# Altium footprint library 2.14-PLCC封装.PcbLib: 77 footprints (part 2 of 5)
Each footprint in its own frame and in the unit in brackets; x right, y up, seen from the top. Pads: shape width x height; smd on the part's side, far side on the other; paste and mask are expansions set on the pad; w line width, h text height; cw(c..) or ccw(c..) is an arc to the next point about the centre after c.
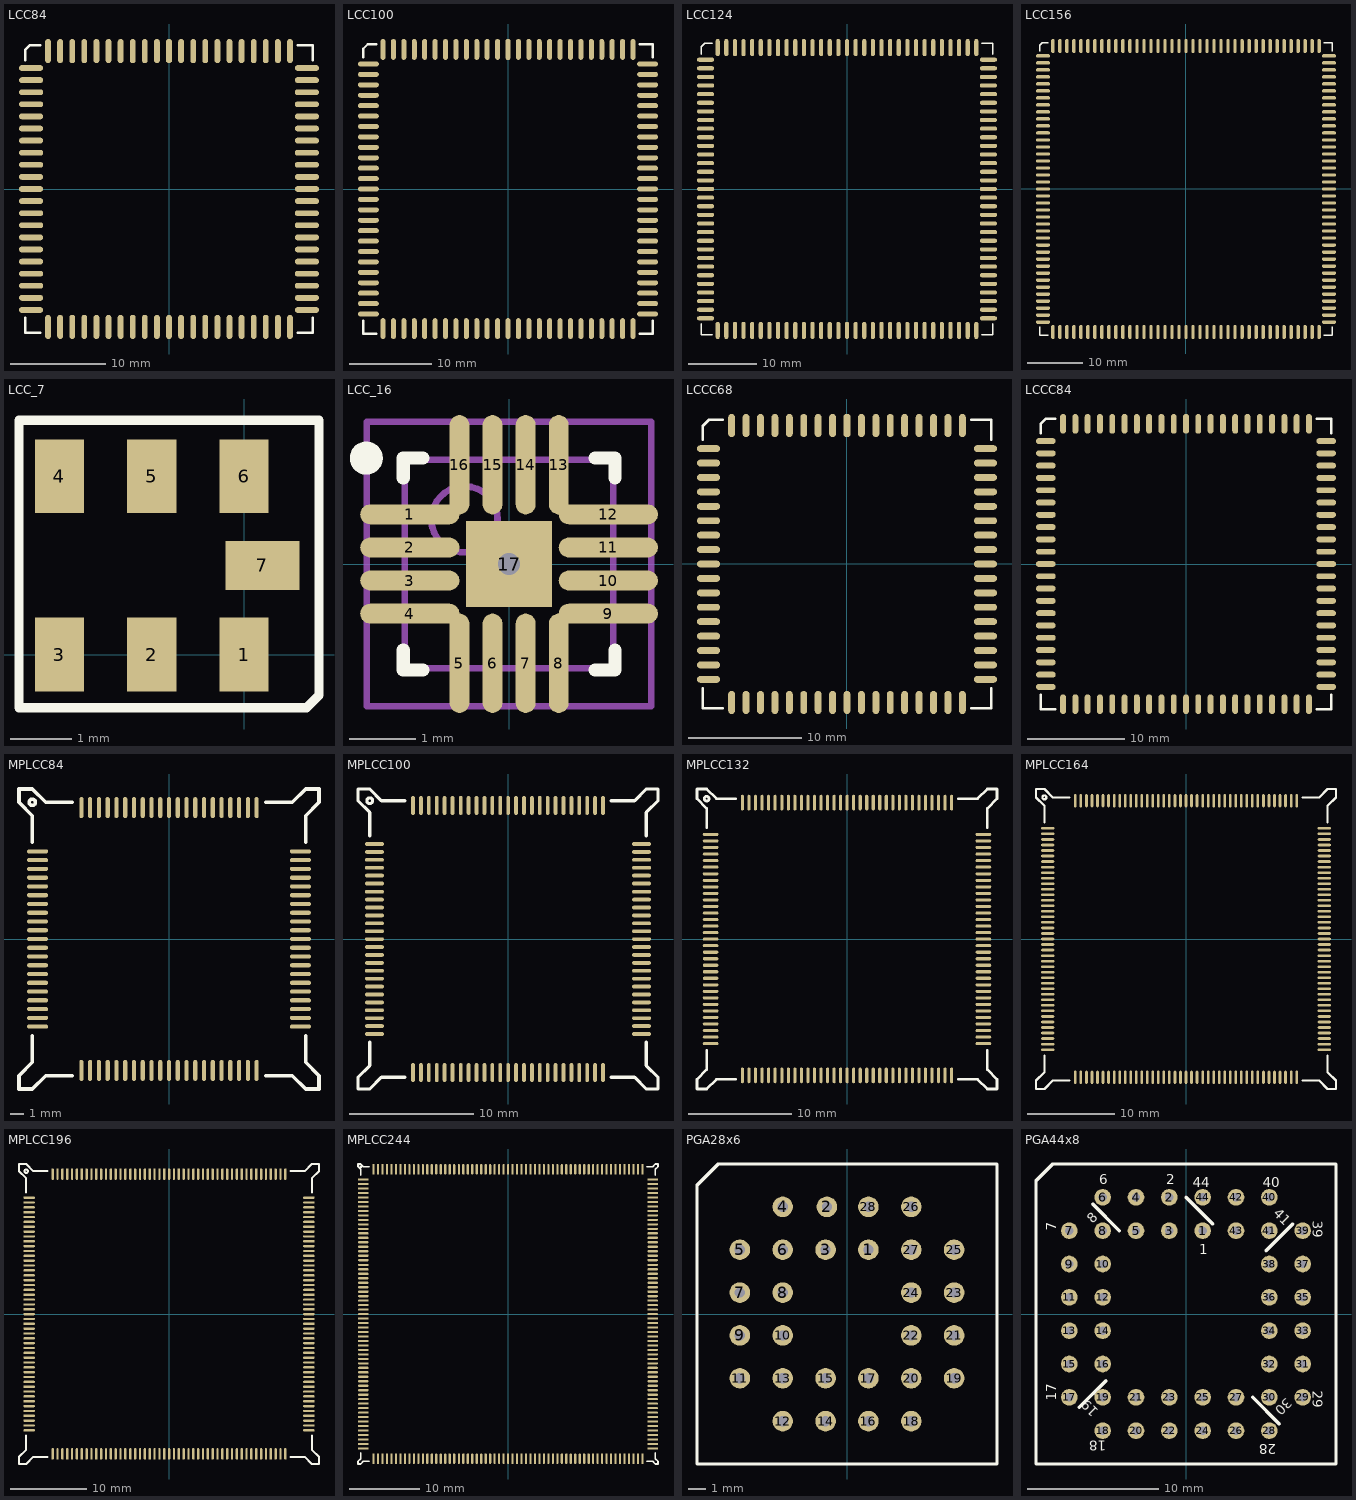
[diagram p1: the footprints below, top view; thin cyan lines are the x and y axes]

## LCC84 [mil] "[ PCBѧϰȺ514746572 ]"
pads (84):
  oct 24x100 smd: 1(0,570)
  oval 24x100 smd: 2(-50,570) 3(-100,570) 4(-150,570) 5(-200,570) 6(-250,570) 7(-300,570) 8(-350,570) 9(-400,570) 10(-450,570) 11(-500,570) 33(-500,-570) 34(-450,-570) 35(-400,-570) 36(-350,-570) 37(-300,-570) 38(-250,-570) 39(-200,-570) 40(-150,-570) 41(-100,-570) 42(-50,-570) 43(0,-570) 44(50,-570) 45(100,-570) 46(150,-570) 47(200,-570) 48(250,-570) 49(300,-570) 50(350,-570) 51(400,-570) 52(450,-570) 53(500,-570) 75(500,570) 76(450,570) 77(400,570) 78(350,570) 79(300,570) 80(250,570) 81(200,570) 82(150,570) 83(100,570) 84(50,570)
  oval 100x24 smd: 12(-570,500) 13(-570,450) 14(-570,400) 15(-570,350) 16(-570,300) 17(-570,250) 18(-570,200) 19(-570,150) 20(-570,100) 21(-570,50) 22(-570,0) 23(-570,-50) 24(-570,-100) 25(-570,-150) 26(-570,-200) 27(-570,-250) 28(-570,-300) 29(-570,-350) 30(-570,-400) 31(-570,-450) 32(-570,-500) 54(570,-500) 55(570,-450) 56(570,-400) 57(570,-350) 58(570,-300) 59(570,-250) 60(570,-200) 61(570,-150) 62(570,-100) 63(570,-50) 64(570,0) 65(570,50) 66(570,100) 67(570,150) 68(570,200) 69(570,250) 70(570,300) 71(570,350) 72(570,400) 73(570,450) 74(570,500)
Top Overlay:
  lines w10: -595,-532 -595,-595 -532,-595 ; -595,532 -595,574 -574,595 -532,595 ; 532,-595 595,-595 595,-532 ; 532,595 595,595 595,532

## LCC100 [mil] "[ PCBѧϰȺ514746572 ]"
pads (100):
  oct 24x100 smd: 1(0,670)
  oval 24x100 smd: 2(-50,670) 3(-100,670) 4(-150,670) 5(-200,670) 6(-250,670) 7(-300,670) 8(-350,670) 9(-400,670) 10(-450,670) 11(-500,670) 12(-550,670) 13(-600,670) 39(-600,-670) 40(-550,-670) 41(-500,-670) 42(-450,-670) 43(-400,-670) 44(-350,-670) 45(-300,-670) 46(-250,-670) 47(-200,-670) 48(-150,-670) 49(-100,-670) 50(-50,-670) 51(0,-670) 52(50,-670) 53(100,-670) 54(150,-670) 55(200,-670) 56(250,-670) 57(300,-670) 58(350,-670) 59(400,-670) 60(450,-670) 61(500,-670) 62(550,-670) 63(600,-670) 89(600,670) 90(550,670) 91(500,670) 92(450,670) 93(400,670) 94(350,670) 95(300,670) 96(250,670) 97(200,670) 98(150,670) 99(100,670) 100(50,670)
  oval 100x24 smd: 14(-670,600) 15(-670,550) 16(-670,500) 17(-670,450) 18(-670,400) 19(-670,350) 20(-670,300) 21(-670,250) 22(-670,200) 23(-670,150) 24(-670,100) 25(-670,50) 26(-670,0) 27(-670,-50) 28(-670,-100) 29(-670,-150) 30(-670,-200) 31(-670,-250) 32(-670,-300) 33(-670,-350) 34(-670,-400) 35(-670,-450) 36(-670,-500) 37(-670,-550) 38(-670,-600) 64(670,-600) 65(670,-550) 66(670,-500) 67(670,-450) 68(670,-400) 69(670,-350) 70(670,-300) 71(670,-250) 72(670,-200) 73(670,-150) 74(670,-100) 75(670,-50) 76(670,0) 77(670,50) 78(670,100) 79(670,150) 80(670,200) 81(670,250) 82(670,300) 83(670,350) 84(670,400) 85(670,450) 86(670,500) 87(670,550) 88(670,600)
Top Overlay:
  lines w10: -695,-632 -695,-695 -632,-695 ; -695,632 -695,674 -674,695 -632,695 ; 632,-695 695,-695 695,-632 ; 632,695 695,695 695,632

## LCC124 [mil] "[ PCBѧϰȺ514746572 ]"
pads (124):
  oct 24x100 smd: 1(0,820)
  oval 24x100 smd: 2(-50,820) 3(-100,820) 4(-150,820) 5(-200,820) 6(-250,820) 7(-300,820) 8(-350,820) 9(-400,820) 10(-450,820) 11(-500,820) 12(-550,820) 13(-600,820) 14(-650,820) 15(-700,820) 16(-750,820) 48(-750,-820) 49(-700,-820) 50(-650,-820) 51(-600,-820) 52(-550,-820) 53(-500,-820) 54(-450,-820) 55(-400,-820) 56(-350,-820) 57(-300,-820) 58(-250,-820) 59(-200,-820) 60(-150,-820) 61(-100,-820) 62(-50,-820) 63(0,-820) 64(50,-820) 65(100,-820) 66(150,-820) 67(200,-820) 68(250,-820) 69(300,-820) 70(350,-820) 71(400,-820) 72(450,-820) 73(500,-820) 74(550,-820) 75(600,-820) 76(650,-820) 77(700,-820) 78(750,-820) 110(750,820) 111(700,820) 112(650,820) 113(600,820) 114(550,820) 115(500,820) 116(450,820) 117(400,820) 118(350,820) 119(300,820) 120(250,820) 121(200,820) 122(150,820) 123(100,820) 124(50,820)
  oval 100x24 smd: 17(-820,750) 18(-820,700) 19(-820,650) 20(-820,600) 21(-820,550) 22(-820,500) 23(-820,450) 24(-820,400) 25(-820,350) 26(-820,300) 27(-820,250) 28(-820,200) 29(-820,150) 30(-820,100) 31(-820,50) 32(-820,0) 33(-820,-50) 34(-820,-100) 35(-820,-150) 36(-820,-200) 37(-820,-250) 38(-820,-300) 39(-820,-350) 40(-820,-400) 41(-820,-450) 42(-820,-500) 43(-820,-550) 44(-820,-600) 45(-820,-650) 46(-820,-700) 47(-820,-750) 79(820,-750) 80(820,-700) 81(820,-650) 82(820,-600) 83(820,-550) 84(820,-500) 85(820,-450) 86(820,-400) 87(820,-350) 88(820,-300) 89(820,-250) 90(820,-200) 91(820,-150) 92(820,-100) 93(820,-50) 94(820,0) 95(820,50) 96(820,100) 97(820,150) 98(820,200) 99(820,250) 100(820,300) 101(820,350) 102(820,400) 103(820,450) 104(820,500) 105(820,550) 106(820,600) 107(820,650) 108(820,700) 109(820,750)
Top Overlay:
  lines w10: -845,-782 -845,-845 -782,-845 ; -845,782 -845,824 -824,845 -782,845 ; 782,-845 845,-845 845,-782 ; 782,845 845,845 845,782

## LCC156 [mil] "[ PCBѧϰȺ514746572 ]"
pads (156):
  oct 24x100 smd: 1(0,1020)
  oval 24x100 smd: 2(-50,1020) 3(-100,1020) 4(-150,1020) 5(-200,1020) 6(-250,1020) 7(-300,1020) 8(-350,1020) 9(-400,1020) 10(-450,1020) 11(-500,1020) 12(-550,1020) 13(-600,1020) 14(-650,1020) 15(-700,1020) 16(-750,1020) 17(-800,1020) 18(-850,1020) 19(-900,1020) 20(-950,1020) 60(-950,-1020) 61(-900,-1020) 62(-850,-1020) 63(-800,-1020) 64(-750,-1020) 65(-700,-1020) 66(-650,-1020) 67(-600,-1020) 68(-550,-1020) 69(-500,-1020) 70(-450,-1020) 71(-400,-1020) 72(-350,-1020) 73(-300,-1020) 74(-250,-1020) 75(-200,-1020) 76(-150,-1020) 77(-100,-1020) 78(-50,-1020) 79(0,-1020) 80(50,-1020) 81(100,-1020) 82(150,-1020) 83(200,-1020) 84(250,-1020) 85(300,-1020) 86(350,-1020) 87(400,-1020) 88(450,-1020) 89(500,-1020) 90(550,-1020) 91(600,-1020) 92(650,-1020) 93(700,-1020) 94(750,-1020) 95(800,-1020) 96(850,-1020) 97(900,-1020) 98(950,-1020) 138(950,1020) 139(900,1020) 140(850,1020) 141(800,1020) 142(750,1020) 143(700,1020) 144(650,1020) 145(600,1020) 146(550,1020) 147(500,1020) 148(450,1020) 149(400,1020) 150(350,1020) 151(300,1020) 152(250,1020) 153(200,1020) 154(150,1020) 155(100,1020) 156(50,1020)
  oval 100x24 smd: 21(-1020,950) 22(-1020,900) 23(-1020,850) 24(-1020,800) 25(-1020,750) 26(-1020,700) 27(-1020,650) 28(-1020,600) 29(-1020,550) 30(-1020,500) 31(-1020,450) 32(-1020,400) 33(-1020,350) 34(-1020,300) 35(-1020,250) 36(-1020,200) 37(-1020,150) 38(-1020,100) 39(-1020,50) 40(-1020,0) 41(-1020,-50) 42(-1020,-100) 43(-1020,-150) 44(-1020,-200) 45(-1020,-250) 46(-1020,-300) 47(-1020,-350) 48(-1020,-400) 49(-1020,-450) 50(-1020,-500) 51(-1020,-550) 52(-1020,-600) 53(-1020,-650) 54(-1020,-700) 55(-1020,-750) 56(-1020,-800) 57(-1020,-850) 58(-1020,-900) 59(-1020,-950) 99(1020,-950) 100(1020,-900) 101(1020,-850) 102(1020,-800) 103(1020,-750) 104(1020,-700) 105(1020,-650) 106(1020,-600) 107(1020,-550) 108(1020,-500) 109(1020,-450) 110(1020,-400) 111(1020,-350) 112(1020,-300) 113(1020,-250) 114(1020,-200) 115(1020,-150) 116(1020,-100) 117(1020,-50) 118(1020,0) 119(1020,50) 120(1020,100) 121(1020,150) 122(1020,200) 123(1020,250) 124(1020,300) 125(1020,350) 126(1020,400) 127(1020,450) 128(1020,500) 129(1020,550) 130(1020,600) 131(1020,650) 132(1020,700) 133(1020,750) 134(1020,800) 135(1020,850) 136(1020,900) 137(1020,950)
Top Overlay:
  lines w10: -1045,-982 -1045,-1045 -982,-1045 ; -1045,982 -1045,1024 -1024,1045 -982,1045 ; 982,-1045 1045,-1045 1045,-982 ; 982,1045 1045,1045 1045,982

## LCC_7 [mm] "[ PCBѧϰȺ514746572 ]"
pads (7):
  rect 0.8x1.2 smd: 1(0,0) 2(-1.5,0) 3(-3,0) 4(-3,2.9) 5(-1.5,2.9) 6(0,2.9)
  rect 1.2x0.8 smd: 7(0.3,1.45)
Top Overlay:
  lines w0.15: -3.658,-0.864 1.016,-0.864 1.219,-0.66 1.219,3.81 -3.658,3.81 -3.658,-0.864

## LCC_16 [mm] "[ PCBѧϰȺ514746572 ]"
pads (17):
  oval 1.5x0.3 smd: 1(-1.5,0.75) 2(-1.5,0.25) 3(-1.5,-0.25) 4(-1.5,-0.75) 9(1.5,-0.75) 10(1.5,-0.25) 11(1.5,0.25) 12(1.5,0.75)
  oval 0.3x1.5 smd: 5(-0.75,-1.5) 6(-0.25,-1.5) 7(0.25,-1.5) 8(0.75,-1.5) 13(0.75,1.5) 14(0.25,1.5) 15(-0.25,1.5) 16(-0.75,1.5)
  rect 1.3x1.3 smd: 17(0,0)
via 0,0 diameter 0.66 hole 0.33
Top Overlay:
  circle w0.25: c-2.159,1.6 r0.125
  lines w0.2: -1.6,-1.3 -1.6,-1.6 -1.3,-1.6 ; -1.6,1.3 -1.6,1.6 -1.3,1.6 ; 1.3,-1.6 1.6,-1.6 1.6,-1.3 ; 1.3,1.6 1.6,1.6 1.6,1.3
Mechanical 13:
  circle w0.1: c-0.675,0.675 r0.5
  lines w0.1: -1.575,-1.575 1.575,-1.575 1.575,1.575 -1.575,1.575 -1.575,-1.575
Mechanical 15:
  lines w0.1: -0.5,0 0.5,0 ; 0,-0.5 0,0.5 ; -2.15,-2.15 2.15,-2.15 2.15,2.15 -2.15,2.15 -2.15,-2.15
3D body: height 1, standoff 0, extent -1.575,-1.575 1.575,1.575

## LCCC68 [mil] "[ PCBѧϰȺ514746572 ]"
pads (68):
  oct 24x80 smd: 1(0,480)
  oval 24x80 smd: 2(-50,480) 3(-100,480) 4(-150,480) 5(-200,480) 6(-250,480) 7(-300,480) 8(-350,480) 9(-400,480) 27(-400,-480) 28(-350,-480) 29(-300,-480) 30(-250,-480) 31(-200,-480) 32(-150,-480) 33(-100,-480) 34(-50,-480) 35(0,-480) 36(50,-480) 37(100,-480) 38(150,-480) 39(200,-480) 40(250,-480) 41(300,-480) 42(350,-480) 43(400,-480) 61(400,480) 62(350,480) 63(300,480) 64(250,480) 65(200,480) 66(150,480) 67(100,480) 68(50,480)
  oval 80x24 smd: 10(-480,400) 11(-480,350) 12(-480,300) 13(-480,250) 14(-480,200) 15(-480,150) 16(-480,100) 17(-480,50) 18(-480,0) 19(-480,-50) 20(-480,-100) 21(-480,-150) 22(-480,-200) 23(-480,-250) 24(-480,-300) 25(-480,-350) 26(-480,-400) 44(480,-400) 45(480,-350) 46(480,-300) 47(480,-250) 48(480,-200) 49(480,-150) 50(480,-100) 51(480,-50) 52(480,0) 53(480,50) 54(480,100) 55(480,150) 56(480,200) 57(480,250) 58(480,300) 59(480,350) 60(480,400)
Top Overlay:
  lines w10: -500,-432 -500,-500 -432,-500 ; -500,432 -500,478 -478,500 -432,500 ; 432,-500 500,-500 500,-432 ; 432,500 500,500 500,432

## LCCC84 [mil] "[ PCBѧϰȺ514746572 ]"
pads (84):
  oct 24x80 smd: 1(0,570)
  oval 24x80 smd: 2(-50,570) 3(-100,570) 4(-150,570) 5(-200,570) 6(-250,570) 7(-300,570) 8(-350,570) 9(-400,570) 10(-450,570) 11(-500,570) 33(-500,-570) 34(-450,-570) 35(-400,-570) 36(-350,-570) 37(-300,-570) 38(-250,-570) 39(-200,-570) 40(-150,-570) 41(-100,-570) 42(-50,-570) 43(0,-570) 44(50,-570) 45(100,-570) 46(150,-570) 47(200,-570) 48(250,-570) 49(300,-570) 50(350,-570) 51(400,-570) 52(450,-570) 53(500,-570) 75(500,570) 76(450,570) 77(400,570) 78(350,570) 79(300,570) 80(250,570) 81(200,570) 82(150,570) 83(100,570) 84(50,570)
  oval 80x24 smd: 12(-570,500) 13(-570,450) 14(-570,400) 15(-570,350) 16(-570,300) 17(-570,250) 18(-570,200) 19(-570,150) 20(-570,100) 21(-570,50) 22(-570,0) 23(-570,-50) 24(-570,-100) 25(-570,-150) 26(-570,-200) 27(-570,-250) 28(-570,-300) 29(-570,-350) 30(-570,-400) 31(-570,-450) 32(-570,-500) 54(570,-500) 55(570,-450) 56(570,-400) 57(570,-350) 58(570,-300) 59(570,-250) 60(570,-200) 61(570,-150) 62(570,-100) 63(570,-50) 64(570,0) 65(570,50) 66(570,100) 67(570,150) 68(570,200) 69(570,250) 70(570,300) 71(570,350) 72(570,400) 73(570,450) 74(570,500)
Top Overlay:
  lines w10: -590,-532 -590,-590 -532,-590 ; -590,532 -590,571 -571,590 -532,590 ; 532,-590 590,-590 590,-532 ; 532,590 590,590 590,532

## MPLCC84 [mil] "[ PCBѧϰȺ514746572 ]"
pads (84):
  oval 12x60 smd: 1(0,375) 2(-25,375) 3(-50,375) 4(-75,375) 5(-100,375) 6(-125,375) 7(-150,375) 8(-175,375) 9(-200,375) 10(-225,375) 11(-250,375) 33(-250,-375) 34(-225,-375) 35(-200,-375) 36(-175,-375) 37(-150,-375) 38(-125,-375) 39(-100,-375) 40(-75,-375) 41(-50,-375) 42(-25,-375) 43(0,-375) 44(25,-375) 45(50,-375) 46(75,-375) 47(100,-375) 48(125,-375) 49(150,-375) 50(175,-375) 51(200,-375) 52(225,-375) 53(250,-375) 75(250,375) 76(225,375) 77(200,375) 78(175,375) 79(150,375) 80(125,375) 81(100,375) 82(75,375) 83(50,375) 84(25,375)
  oval 60x12 smd: 12(-375,250) 13(-375,225) 14(-375,200) 15(-375,175) 16(-375,150) 17(-375,125) 18(-375,100) 19(-375,75) 20(-375,50) 21(-375,25) 22(-375,0) 23(-375,-25) 24(-375,-50) 25(-375,-75) 26(-375,-100) 27(-375,-125) 28(-375,-150) 29(-375,-175) 30(-375,-200) 31(-375,-225) 32(-375,-250) 54(375,-250) 55(375,-225) 56(375,-200) 57(375,-175) 58(375,-150) 59(375,-125) 60(375,-100) 61(375,-75) 62(375,-50) 63(375,-25) 64(375,0) 65(375,25) 66(375,50) 67(375,75) 68(375,100) 69(375,125) 70(375,150) 71(375,175) 72(375,200) 73(375,225) 74(375,250)
Top Overlay:
  circle w10: c-390,390 r9
  lines w10: -390,-276 -390,-352 -428,-390 -428,-428 -390,-428 -352,-390 -276,-390 ; -390,276 -390,352 -428,390 -428,428 -390,428 -352,390 -276,390 ; 276,-390 352,-390 390,-428 428,-428 428,-390 390,-352 390,-276 ; 276,390 352,390 390,428 428,428 428,390 390,352 390,276

## MPLCC100 [mil] "[ PCBѧϰȺ514746572 ]"
pads (100):
  oval 12x60 smd: 1(0.5,422.5) 2(-24.5,422.5) 3(-49.5,422.5) 4(-74.5,422.5) 5(-99.5,422.5) 6(-124.5,422.5) 7(-149.5,422.5) 8(-175.5,422.5) 9(-200.5,422.5) 10(-225.5,422.5) 11(-250.5,422.5) 12(-275.5,422.5) 13(-300.5,422.5) 39(-300.5,-422.5) 40(-275.5,-422.5) 41(-250.5,-422.5) 42(-225.5,-422.5) 43(-200.5,-422.5) 44(-175.5,-422.5) 45(-149.5,-422.5) 46(-124.5,-422.5) 47(-99.5,-422.5) 48(-74.5,-422.5) 49(-49.5,-422.5) 50(-24.5,-422.5) 51(0.5,-422.5) 52(25.5,-422.5) 53(50.5,-422.5) 54(75.5,-422.5) 55(100.5,-422.5) 56(125.5,-422.5) 57(150.5,-422.5) 58(175.5,-422.5) 59(200.5,-422.5) 60(225.5,-422.5) 61(250.5,-422.5) 62(275.5,-422.5) 63(300.5,-422.5) 89(300.5,422.5) 90(275.5,422.5) 91(250.5,422.5) 92(225.5,422.5) 93(200.5,422.5) 94(175.5,422.5) 95(150.5,422.5) 96(125.5,422.5) 97(100.5,422.5) 98(75.5,422.5) 99(50.5,422.5) 100(25.5,422.5)
  oval 60x12 smd: 14(-422.5,300.5) 15(-422.5,275.5) 16(-422.5,250.5) 17(-422.5,225.5) 18(-422.5,200.5) 19(-422.5,175.5) 20(-422.5,149.5) 21(-422.5,124.5) 22(-422.5,99.5) 23(-422.5,74.5) 24(-422.5,49.5) 25(-422.5,24.5) 26(-422.5,-0.5) 27(-422.5,-25.5) 28(-422.5,-50.5) 29(-422.5,-75.5) 30(-422.5,-100.5) 31(-422.5,-125.5) 32(-422.5,-150.5) 33(-422.5,-175.5) 34(-422.5,-200.5) 35(-422.5,-225.5) 36(-422.5,-250.5) 37(-422.5,-275.5) 38(-422.5,-300.5) 64(422.5,-300.5) 65(422.5,-275.5) 66(422.5,-250.5) 67(422.5,-225.5) 68(422.5,-200.5) 69(422.5,-175.5) 70(422.5,-150.5) 71(422.5,-125.5) 72(422.5,-100.5) 73(422.5,-75.5) 74(422.5,-50.5) 75(422.5,-25.5) 76(422.5,-0.5) 77(422.5,24.5) 78(422.5,49.5) 79(422.5,74.5) 80(422.5,99.5) 81(422.5,124.5) 82(422.5,149.5) 83(422.5,175.5) 84(422.5,200.5) 85(422.5,225.5) 86(422.5,250.5) 87(422.5,275.5) 88(422.5,300.5)
Top Overlay:
  circle w10: c-437.5,437.5 r9
  lines w10: -437.5,-326.5 -437.5,-400.5 -474.5,-437.5 -474.5,-474.5 -437.5,-474.5 -400.5,-437.5 -326.5,-437.5 ; -437.5,326.5 -437.5,400.5 -474.5,437.5 -474.5,474.5 -437.5,474.5 -400.5,437.5 -326.5,437.5 ; 326.5,-437.5 400.5,-437.5 437.5,-474.5 474.5,-474.5 474.5,-437.5 437.5,-400.5 437.5,-326.5 ; 326.5,437.5 400.5,437.5 437.5,474.5 474.5,474.5 474.5,437.5 437.5,400.5 437.5,326.5

## MPLCC132 [mil] "[ PCBѧϰȺ514746572 ]"
pads (132):
  oval 12x60 smd: 1(0.5,522.5) 2(-24.5,522.5) 3(-49.5,522.5) 4(-74.5,522.5) 5(-99.5,522.5) 6(-124.5,522.5) 7(-149.5,522.5) 8(-174.5,522.5) 9(-199.5,522.5) 10(-224.5,522.5) 11(-249.5,522.5) 12(-275.5,522.5) 13(-300.5,522.5) 14(-325.5,522.5) 15(-350.5,522.5) 16(-375.5,522.5) 17(-400.5,522.5) 51(-400.5,-522.5) 52(-375.5,-522.5) 53(-350.5,-522.5) 54(-325.5,-522.5) 55(-300.5,-522.5) 56(-275.5,-522.5) 57(-249.5,-522.5) 58(-224.5,-522.5) 59(-199.5,-522.5) 60(-174.5,-522.5) 61(-149.5,-522.5) 62(-124.5,-522.5) 63(-99.5,-522.5) 64(-74.5,-522.5) 65(-49.5,-522.5) 66(-24.5,-522.5) 67(0.5,-522.5) 68(25.5,-522.5) 69(50.5,-522.5) 70(75.5,-522.5) 71(100.5,-522.5) 72(125.5,-522.5) 73(150.5,-522.5) 74(175.5,-522.5) 75(200.5,-522.5) 76(225.5,-522.5) 77(250.5,-522.5) 78(275.5,-522.5) 79(300.5,-522.5) 80(325.5,-522.5) 81(350.5,-522.5) 82(375.5,-522.5) 83(400.5,-522.5) 117(400.5,522.5) 118(375.5,522.5) 119(350.5,522.5) 120(325.5,522.5) 121(300.5,522.5) 122(275.5,522.5) 123(250.5,522.5) 124(225.5,522.5) 125(200.5,522.5) 126(175.5,522.5) 127(150.5,522.5) 128(125.5,522.5) 129(100.5,522.5) 130(75.5,522.5) 131(50.5,522.5) 132(25.5,522.5)
  oval 60x12 smd: 18(-522.5,400.5) 19(-522.5,375.5) 20(-522.5,350.5) 21(-522.5,325.5) 22(-522.5,300.5) 23(-522.5,275.5) 24(-522.5,249.5) 25(-522.5,224.5) 26(-522.5,199.5) 27(-522.5,174.5) 28(-522.5,149.5) 29(-522.5,124.5) 30(-522.5,99.5) 31(-522.5,74.5) 32(-522.5,49.5) 33(-522.5,24.5) 34(-522.5,-0.5) 35(-522.5,-25.5) 36(-522.5,-50.5) 37(-522.5,-75.5) 38(-522.5,-100.5) 39(-522.5,-125.5) 40(-522.5,-150.5) 41(-522.5,-175.5) 42(-522.5,-200.5) 43(-522.5,-225.5) 44(-522.5,-250.5) 45(-522.5,-275.5) 46(-522.5,-300.5) 47(-522.5,-325.5) 48(-522.5,-350.5) 49(-522.5,-375.5) 50(-522.5,-400.5) 84(522.5,-400.5) 85(522.5,-375.5) 86(522.5,-350.5) 87(522.5,-325.5) 88(522.5,-300.5) 89(522.5,-275.5) 90(522.5,-250.5) 91(522.5,-225.5) 92(522.5,-200.5) 93(522.5,-175.5) 94(522.5,-150.5) 95(522.5,-125.5) 96(522.5,-100.5) 97(522.5,-75.5) 98(522.5,-50.5) 99(522.5,-25.5) 100(522.5,-0.5) 101(522.5,24.5) 102(522.5,49.5) 103(522.5,74.5) 104(522.5,99.5) 105(522.5,124.5) 106(522.5,149.5) 107(522.5,174.5) 108(522.5,199.5) 109(522.5,224.5) 110(522.5,249.5) 111(522.5,275.5) 112(522.5,300.5) 113(522.5,325.5) 114(522.5,350.5) 115(522.5,375.5) 116(522.5,400.5)
Top Overlay:
  circle w10: c-537.5,537.5 r9
  lines w10: -537.5,-426.5 -537.5,-500.5 -574.5,-537.5 -574.5,-574.5 -537.5,-574.5 -500.5,-537.5 -426.5,-537.5 ; -537.5,426.5 -537.5,500.5 -574.5,537.5 -574.5,574.5 -537.5,574.5 -500.5,537.5 -426.5,537.5 ; 426.5,-537.5 500.5,-537.5 537.5,-574.5 574.5,-574.5 574.5,-537.5 537.5,-500.5 537.5,-426.5 ; 426.5,537.5 500.5,537.5 537.5,574.5 574.5,574.5 574.5,537.5 537.5,500.5 537.5,426.5

## MPLCC164 [mil] "[ PCBѧϰȺ514746572 ]"
pads (164):
  oval 12x60 smd: 1(0,625) 2(-25,625) 3(-50,625) 4(-75,625) 5(-100,625) 6(-125,625) 7(-150,625) 8(-175,625) 9(-200,625) 10(-225,625) 11(-250,625) 12(-275,625) 13(-300,625) 14(-325,625) 15(-350,625) 16(-375,625) 17(-400,625) 18(-425,625) 19(-450,625) 20(-475,625) 21(-500,625) 63(-500,-625) 64(-475,-625) 65(-450,-625) 66(-425,-625) 67(-400,-625) 68(-375,-625) 69(-350,-625) 70(-325,-625) 71(-300,-625) 72(-275,-625) 73(-250,-625) 74(-225,-625) 75(-200,-625) 76(-175,-625) 77(-150,-625) 78(-125,-625) 79(-100,-625) 80(-75,-625) 81(-50,-625) 82(-25,-625) 83(0,-625) 84(25,-625) 85(50,-625) 86(75,-625) 87(100,-625) 88(125,-625) 89(150,-625) 90(175,-625) 91(200,-625) 92(225,-625) 93(250,-625) 94(275,-625) 95(300,-625) 96(325,-625) 97(350,-625) 98(375,-625) 99(400,-625) 100(425,-625) 101(450,-625) 102(475,-625) 103(500,-625) 145(500,625) 146(475,625) 147(450,625) 148(425,625) 149(400,625) 150(375,625) 151(350,625) 152(325,625) 153(300,625) 154(275,625) 155(250,625) 156(225,625) 157(200,625) 158(175,625) 159(150,625) 160(125,625) 161(100,625) 162(75,625) 163(50,625) 164(25,625)
  oval 60x12 smd: 22(-625,500) 23(-625,475) 24(-625,450) 25(-625,425) 26(-625,400) 27(-625,375) 28(-625,350) 29(-625,325) 30(-625,300) 31(-625,275) 32(-625,250) 33(-625,225) 34(-625,200) 35(-625,175) 36(-625,150) 37(-625,125) 38(-625,100) 39(-625,75) 40(-625,50) 41(-625,25) 42(-625,0) 43(-625,-25) 44(-625,-50) 45(-625,-75) 46(-625,-100) 47(-625,-125) 48(-625,-150) 49(-625,-175) 50(-625,-200) 51(-625,-225) 52(-625,-250) 53(-625,-275) 54(-625,-300) 55(-625,-325) 56(-625,-350) 57(-625,-375) 58(-625,-400) 59(-625,-425) 60(-625,-450) 61(-625,-475) 62(-625,-500) 104(625,-500) 105(625,-475) 106(625,-450) 107(625,-425) 108(625,-400) 109(625,-375) 110(625,-350) 111(625,-325) 112(625,-300) 113(625,-275) 114(625,-250) 115(625,-225) 116(625,-200) 117(625,-175) 118(625,-150) 119(625,-125) 120(625,-100) 121(625,-75) 122(625,-50) 123(625,-25) 124(625,0) 125(625,25) 126(625,50) 127(625,75) 128(625,100) 129(625,125) 130(625,150) 131(625,175) 132(625,200) 133(625,225) 134(625,250) 135(625,275) 136(625,300) 137(625,325) 138(625,350) 139(625,375) 140(625,400) 141(625,425) 142(625,450) 143(625,475) 144(625,500)
Top Overlay:
  circle w10: c-640,640 r9
  lines w10: -640,-526 -640,-602 -678,-640 -678,-678 -640,-678 -602,-640 -526,-640 ; -640,526 -640,602 -678,640 -678,678 -640,678 -602,640 -526,640 ; 526,-640 602,-640 640,-678 678,-678 678,-640 640,-602 640,-526 ; 526,640 602,640 640,678 678,678 678,640 640,602 640,526

## MPLCC196 [mil] "[ PCBѧϰȺ514746572 ]"
pads (196):
  oval 12x60 smd: 1(0.5,722.5) 2(-24.5,722.5) 3(-49.5,722.5) 4(-74.5,722.5) 5(-99.5,722.5) 6(-124.5,722.5) 7(-149.5,722.5) 8(-174.5,722.5) 9(-199.5,722.5) 10(-225.5,722.5) 11(-250.5,722.5) 12(-275.5,722.5) 13(-300.5,722.5) 14(-325.5,722.5) 15(-350.5,722.5) 16(-375.5,722.5) 17(-400.5,722.5) 18(-425.5,722.5) 19(-450.5,722.5) 20(-475.5,722.5) 21(-500.5,722.5) 22(-525.5,722.5) 23(-550.5,722.5) 24(-575.5,722.5) 25(-600.5,722.5) 75(-600.5,-722.5) 76(-575.5,-722.5) 77(-550.5,-722.5) 78(-525.5,-722.5) 79(-500.5,-722.5) 80(-475.5,-722.5) 81(-450.5,-722.5) 82(-425.5,-722.5) 83(-400.5,-722.5) 84(-375.5,-722.5) 85(-350.5,-722.5) 86(-325.5,-722.5) 87(-300.5,-722.5) 88(-275.5,-722.5) 89(-250.5,-722.5) 90(-225.5,-722.5) 91(-199.5,-722.5) 92(-174.5,-722.5) 93(-149.5,-722.5) 94(-124.5,-722.5) 95(-99.5,-722.5) 96(-74.5,-722.5) 97(-49.5,-722.5) 98(-24.5,-722.5) 99(0.5,-722.5) 100(25.5,-722.5) 101(50.5,-722.5) 102(75.5,-722.5) 103(100.5,-722.5) 104(125.5,-722.5) 105(150.5,-722.5) 106(175.5,-722.5) 107(200.5,-722.5) 108(225.5,-722.5) 109(250.5,-722.5) 110(275.5,-722.5) 111(300.5,-722.5) 112(325.5,-722.5) 113(350.5,-722.5) 114(375.5,-722.5) 115(400.5,-722.5) 116(425.5,-722.5) 117(450.5,-722.5) 118(475.5,-722.5) 119(500.5,-722.5) 120(525.5,-722.5) 121(550.5,-722.5) 122(575.5,-722.5) 123(600.5,-722.5) 173(600.5,722.5) 174(575.5,722.5) 175(550.5,722.5) 176(525.5,722.5) 177(500.5,722.5) 178(475.5,722.5) 179(450.5,722.5) 180(425.5,722.5) 181(400.5,722.5) 182(375.5,722.5) 183(350.5,722.5) 184(325.5,722.5) 185(300.5,722.5) 186(275.5,722.5) 187(250.5,722.5) 188(225.5,722.5) 189(200.5,722.5) 190(175.5,722.5) 191(150.5,722.5) 192(125.5,722.5) 193(100.5,722.5) 194(75.5,722.5) 195(50.5,722.5) 196(25.5,722.5)
  oval 60x12 smd: 26(-722.5,600.5) 27(-722.5,575.5) 28(-722.5,550.5) 29(-722.5,525.5) 30(-722.5,500.5) 31(-722.5,475.5) 32(-722.5,450.5) 33(-722.5,425.5) 34(-722.5,400.5) 35(-722.5,375.5) 36(-722.5,350.5) 37(-722.5,325.5) 38(-722.5,300.5) 39(-722.5,275.5) 40(-722.5,250.5) 41(-722.5,225.5) 42(-722.5,199.5) 43(-722.5,174.5) 44(-722.5,149.5) 45(-722.5,124.5) 46(-722.5,99.5) 47(-722.5,74.5) 48(-722.5,49.5) 49(-722.5,24.5) 50(-722.5,-0.5) 51(-722.5,-25.5) 52(-722.5,-50.5) 53(-722.5,-75.5) 54(-722.5,-100.5) 55(-722.5,-125.5) 56(-722.5,-150.5) 57(-722.5,-175.5) 58(-722.5,-200.5) 59(-722.5,-225.5) 60(-722.5,-250.5) 61(-722.5,-275.5) 62(-722.5,-300.5) 63(-722.5,-325.5) 64(-722.5,-350.5) 65(-722.5,-375.5) 66(-722.5,-400.5) 67(-722.5,-425.5) 68(-722.5,-450.5) 69(-722.5,-475.5) 70(-722.5,-500.5) 71(-722.5,-525.5) 72(-722.5,-550.5) 73(-722.5,-575.5) 74(-722.5,-600.5) 124(722.5,-600.5) 125(722.5,-575.5) 126(722.5,-550.5) 127(722.5,-525.5) 128(722.5,-500.5) 129(722.5,-475.5) 130(722.5,-450.5) 131(722.5,-425.5) 132(722.5,-400.5) 133(722.5,-375.5) 134(722.5,-350.5) 135(722.5,-325.5) 136(722.5,-300.5) 137(722.5,-275.5) 138(722.5,-250.5) 139(722.5,-225.5) 140(722.5,-200.5) 141(722.5,-175.5) 142(722.5,-150.5) 143(722.5,-125.5) 144(722.5,-100.5) 145(722.5,-75.5) 146(722.5,-50.5) 147(722.5,-25.5) 148(722.5,-0.5) 149(722.5,24.5) 150(722.5,49.5) 151(722.5,74.5) 152(722.5,99.5) 153(722.5,124.5) 154(722.5,149.5) 155(722.5,174.5) 156(722.5,199.5) 157(722.5,225.5) 158(722.5,250.5) 159(722.5,275.5) 160(722.5,300.5) 161(722.5,325.5) 162(722.5,350.5) 163(722.5,375.5) 164(722.5,400.5) 165(722.5,425.5) 166(722.5,450.5) 167(722.5,475.5) 168(722.5,500.5) 169(722.5,525.5) 170(722.5,550.5) 171(722.5,575.5) 172(722.5,600.5)
Top Overlay:
  circle w10: c-737.5,737.5 r9
  lines w10: -737.5,-626.5 -737.5,-700.5 -774.5,-737.5 -774.5,-774.5 -737.5,-774.5 -700.5,-737.5 -626.5,-737.5 ; -737.5,626.5 -737.5,700.5 -774.5,737.5 -774.5,774.5 -737.5,774.5 -700.5,737.5 -626.5,737.5 ; 626.5,-737.5 700.5,-737.5 737.5,-774.5 774.5,-774.5 774.5,-737.5 737.5,-700.5 737.5,-626.5 ; 626.5,737.5 700.5,737.5 737.5,774.5 774.5,774.5 774.5,737.5 737.5,700.5 737.5,626.5

## MPLCC244 [mil] "[ PCBѧϰȺ514746572 ]"
pads (244):
  oval 12x60 smd: 1(0.5,807.5) 2(-24.5,807.5) 3(-49.5,807.5) 4(-74.5,807.5) 5(-99.5,807.5) 6(-124.5,807.5) 7(-149.5,807.5) 8(-174.5,807.5) 9(-199.5,807.5) 10(-224.5,807.5) 11(-249.5,807.5) 12(-274.5,807.5) 13(-300.5,807.5) 14(-325.5,807.5) 15(-350.5,807.5) 16(-375.5,807.5) 17(-400.5,807.5) 18(-425.5,807.5) 19(-450.5,807.5) 20(-475.5,807.5) 21(-500.5,807.5) 22(-525.5,807.5) 23(-550.5,807.5) 24(-575.5,807.5) 25(-600.5,807.5) 26(-625.5,807.5) 27(-650.5,807.5) 28(-675.5,807.5) 29(-700.5,807.5) 30(-725.5,807.5) 31(-750.5,807.5) 93(-750.5,-807.5) 94(-725.5,-807.5) 95(-700.5,-807.5) 96(-675.5,-807.5) 97(-650.5,-807.5) 98(-625.5,-807.5) 99(-600.5,-807.5) 100(-575.5,-807.5) 101(-550.5,-807.5) 102(-525.5,-807.5) 103(-500.5,-807.5) 104(-475.5,-807.5) 105(-450.5,-807.5) 106(-425.5,-807.5) 107(-400.5,-807.5) 108(-375.5,-807.5) 109(-350.5,-807.5) 110(-325.5,-807.5) 111(-300.5,-807.5) 112(-274.5,-807.5) 113(-249.5,-807.5) 114(-224.5,-807.5) 115(-199.5,-807.5) 116(-174.5,-807.5) 117(-149.5,-807.5) 118(-124.5,-807.5) 119(-99.5,-807.5) 120(-74.5,-807.5) 121(-49.5,-807.5) 122(-24.5,-807.5) 123(0.5,-807.5) 124(25.5,-807.5) 125(50.5,-807.5) 126(75.5,-807.5) 127(100.5,-807.5) 128(125.5,-807.5) 129(150.5,-807.5) 130(175.5,-807.5) 131(200.5,-807.5) 132(225.5,-807.5) 133(250.5,-807.5) 134(275.5,-807.5) 135(300.5,-807.5) 136(325.5,-807.5) 137(350.5,-807.5) 138(375.5,-807.5) 139(400.5,-807.5) 140(425.5,-807.5) 141(450.5,-807.5) 142(475.5,-807.5) 143(500.5,-807.5) 144(525.5,-807.5) 145(550.5,-807.5) 146(575.5,-807.5) 147(600.5,-807.5) 148(625.5,-807.5) 149(650.5,-807.5) 150(675.5,-807.5) 151(700.5,-807.5) 152(725.5,-807.5) 153(750.5,-807.5) 215(750.5,807.5) 216(725.5,807.5) 217(700.5,807.5) 218(675.5,807.5) 219(650.5,807.5) 220(625.5,807.5) 221(600.5,807.5) 222(575.5,807.5) 223(550.5,807.5) 224(525.5,807.5) 225(500.5,807.5) 226(475.5,807.5) 227(450.5,807.5) 228(425.5,807.5) 229(400.5,807.5) 230(375.5,807.5) 231(350.5,807.5) 232(325.5,807.5) 233(300.5,807.5) 234(275.5,807.5) 235(250.5,807.5) 236(225.5,807.5) 237(200.5,807.5) 238(175.5,807.5) 239(150.5,807.5) 240(125.5,807.5) 241(100.5,807.5) 242(75.5,807.5) 243(50.5,807.5) 244(25.5,807.5)
  oval 60x12 smd: 32(-807.5,750.5) 33(-807.5,725.5) 34(-807.5,700.5) 35(-807.5,675.5) 36(-807.5,650.5) 37(-807.5,625.5) 38(-807.5,600.5) 39(-807.5,575.5) 40(-807.5,550.5) 41(-807.5,525.5) 42(-807.5,500.5) 43(-807.5,475.5) 44(-807.5,450.5) 45(-807.5,425.5) 46(-807.5,400.5) 47(-807.5,375.5) 48(-807.5,350.5) 49(-807.5,325.5) 50(-807.5,300.5) 51(-807.5,274.5) 52(-807.5,249.5) 53(-807.5,224.5) 54(-807.5,199.5) 55(-807.5,174.5) 56(-807.5,149.5) 57(-807.5,124.5) 58(-807.5,99.5) 59(-807.5,74.5) 60(-807.5,49.5) 61(-807.5,24.5) 62(-807.5,-0.5) 63(-807.5,-25.5) 64(-807.5,-50.5) 65(-807.5,-75.5) 66(-807.5,-100.5) 67(-807.5,-125.5) 68(-807.5,-150.5) 69(-807.5,-175.5) 70(-807.5,-200.5) 71(-807.5,-225.5) 72(-807.5,-250.5) 73(-807.5,-275.5) 74(-807.5,-300.5) 75(-807.5,-325.5) 76(-807.5,-350.5) 77(-807.5,-375.5) 78(-807.5,-400.5) 79(-807.5,-425.5) 80(-807.5,-450.5) 81(-807.5,-475.5) 82(-807.5,-500.5) 83(-807.5,-525.5) 84(-807.5,-550.5) 85(-807.5,-575.5) 86(-807.5,-600.5) 87(-807.5,-625.5) 88(-807.5,-650.5) 89(-807.5,-675.5) 90(-807.5,-700.5) 91(-807.5,-725.5) 92(-807.5,-750.5) 154(807.5,-750.5) 155(807.5,-725.5) 156(807.5,-700.5) 157(807.5,-675.5) 158(807.5,-650.5) 159(807.5,-625.5) 160(807.5,-600.5) 161(807.5,-575.5) 162(807.5,-550.5) 163(807.5,-525.5) 164(807.5,-500.5) 165(807.5,-475.5) 166(807.5,-450.5) 167(807.5,-425.5) 168(807.5,-400.5) 169(807.5,-375.5) 170(807.5,-350.5) 171(807.5,-325.5) 172(807.5,-300.5) 173(807.5,-275.5) 174(807.5,-250.5) 175(807.5,-225.5) 176(807.5,-200.5) 177(807.5,-175.5) 178(807.5,-150.5) 179(807.5,-125.5) 180(807.5,-100.5) 181(807.5,-75.5) 182(807.5,-50.5) 183(807.5,-25.5) 184(807.5,-0.5) 185(807.5,24.5) 186(807.5,49.5) 187(807.5,74.5) 188(807.5,99.5) 189(807.5,124.5) 190(807.5,149.5) 191(807.5,174.5) 192(807.5,199.5) 193(807.5,224.5) 194(807.5,249.5) 195(807.5,274.5) 196(807.5,300.5) 197(807.5,325.5) 198(807.5,350.5) 199(807.5,375.5) 200(807.5,400.5) 201(807.5,425.5) 202(807.5,450.5) 203(807.5,475.5) 204(807.5,500.5) 205(807.5,525.5) 206(807.5,550.5) 207(807.5,575.5) 208(807.5,600.5) 209(807.5,625.5) 210(807.5,650.5) 211(807.5,675.5) 212(807.5,700.5) 213(807.5,725.5) 214(807.5,750.5)
Top Overlay:
  circle w10: c-822.5,822.5 r3
  lines w10: -822.5,-776.5 -822.5,-807.5 -837.5,-822.5 -837.5,-837.5 -822.5,-837.5 -807.5,-822.5 -776.5,-822.5 ; -822.5,776.5 -822.5,807.5 -837.5,822.5 -837.5,837.5 -822.5,837.5 -807.5,822.5 -776.5,822.5 ; 776.5,-822.5 807.5,-822.5 822.5,-837.5 837.5,-837.5 837.5,-822.5 822.5,-807.5 822.5,-776.5 ; 776.5,822.5 807.5,822.5 822.5,837.5 837.5,837.5 837.5,822.5 822.5,807.5 822.5,776.5

## PGA28x6 [mm] "28脚PLCC插座封装，共6排　像SL811HS　      [ PCB学习群514746572 ]"
pads (28):
  round 1.2 hole 0.6: 1(1.25,3.75) 2(-1.17,6.25) 3(-1.25,3.75) 4(-3.75,6.25) 5(-6.25,3.75) 6(-3.75,3.75) 7(-6.25,1.25) 8(-3.75,1.25) 9(-6.25,-1.25) 10(-3.75,-1.25) 11(-6.25,-3.75) 12(-3.75,-6.25) 13(-3.75,-3.75) 14(-1.25,-6.25) 15(-1.25,-3.75) 16(1.25,-6.25) 17(1.25,-3.75) 18(3.75,-6.25) 19(6.25,-3.75) 20(3.75,-3.75) 21(6.25,-1.25) 22(3.75,-1.25) 23(6.25,1.25) 24(3.75,1.25) 25(6.25,3.75) 26(3.75,6.25) 27(3.75,3.75) 28(1.25,6.25)
Top Overlay:
  lines w0.2: -8.75,-8.75 -8.75,7.5 -7.5,8.75 8.75,8.75 8.75,-8.75 -8.75,-8.75

## PGA44x8 [mil] "PLCC44脚插座，共8排      [ PCB学习群514746572 ]"
pads (44):
  round 50 hole 25: 1(50,250) 2(-50,350) 3(-50,250) 4(-150,350) 5(-150,250) 6(-250,350) 7(-350,250) 8(-250,250) 9(-350,150) 10(-250,150) 11(-350,50) 12(-250,50) 13(-350,-50) 14(-250,-50) 15(-350,-150) 16(-250,-150) 17(-350,-250) 18(-250,-350) 19(-250,-250) 20(-150,-350) 21(-150,-250) 22(-50,-350) 23(-50,-250) 24(50,-350) 25(50,-250) 26(150,-350) 27(150,-250) 28(250,-350) 29(350,-250) 30(250,-250) 31(350,-150) 32(250,-150) 33(350,-50) 34(250,-50) 35(350,50) 36(250,50) 37(350,150) 38(250,150) 39(350,250) 40(250,350) 41(250,250) 42(150,350) 43(150,250) 44(50,350)
Top Overlay:
  lines w10: -320,-280 -240,-200 ; -280,330 -200,250 ; 0,350 80,270 ; 200,-250 280,-330 ; 240,190 320,270 ; -450,-450 450,-450 450,450 -400,450 -450,400 -450,-450
  text "30" at 300,-250 h30
  text "41" at 260,300 h30
  text "40" at 230,380 h30
  text "39" at 380,280 h30
  text "29" at 380,-230 h30
  text "28" at 270,-390 h30
  text "19" at -260,-290 h30
  text "18" at -240,-380 h30
  text "17" at -390,-260 h30
  text "8" at -280,270 h30
  text "7" at -390,250 h30
  text "6" at -260,390 h30
  text "2" at -60,390 h30
  text "1" at 40,180 h30
  text "44" at 20,380 h30